# EAGLE library part SPARKFUN-DISCRETESEMI_TRANS_NPN_DUAL (library kxnStandard_transistor)
Dual NPN Transistors in Single Package The MBT3904W1 puts two general purpose 3904 NPN transistors in a single package. Datasheet <http://www.onsemi.com/pub_link/Collateral/MBT3904DW1T1-D.PDF> SparkFun Products: SparkFun ESP32 Thing <https://www.sparkfun.com/products/13907>
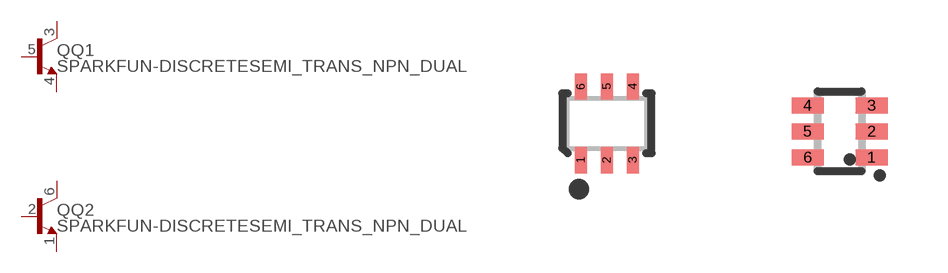
[diagram p0: symbol with the pads of SPARKFUN-DISCRETESEMI_SC70-6; footprints SPARKFUN-DISCRETESEMI_SC70-6, SOT363_JSCJ_KXN]

Designator prefix Q; gates Q1=SPARKFUN-DISCRETESEMI_NPN Q2=SPARKFUN-DISCRETESEMI_NPN

## SPARKFUN-DISCRETESEMI_TRANS_NPN_DUAL-MBT3904DW1T1 (PROD_ID: TRANS-13337; VALUE: TR_363_3904)  [SPARKFUN-DISCRETESEMI_SC70-6]
1  Q2:E  pas
2  Q2:B  pas
3  Q1:C  pas
4  Q1:E  pas
5  Q1:B  pas
6  Q2:C  pas

## SPARKFUN-DISCRETESEMI_TRANS_NPN_DUAL_SOT363_JSCJ_KXN  [SOT363_JSCJ_KXN]
Pads as for SPARKFUN-DISCRETESEMI_SC70-6

## SPARKFUN-DISCRETESEMI_TRANS_NPN_DUAL_SOT363_NXP_KXN  [SOT363_NXP_KXN]
Pads as for SPARKFUN-DISCRETESEMI_SC70-6

## Footprint SPARKFUN-DISCRETESEMI_SC70-6 (pad centres in mm)
SC-88/SC70-6/SOT-363 6-pin Package Example Datasheet <http://www.onsemi.com/pub_link/Collateral/MBT3904DW1T1-D.PDF>
smd 0.3 x 0.66: 1 -0.65,-0.92; 2 0,-0.92; 3 0.65,-0.92; 4 0.65,0.92; 5 0,0.92; 6 -0.65,0.92

## Footprint SOT363_JSCJ_KXN (pad centres in mm)
Marking MMDT3904 - (K6N): Dual NPN; 40V 200mA; 0.2te
smd 0.8 x 0.4: 1 0.8,-0.65; 2 0.8,0; 3 0.8,0.65; 4 -0.8,0.65; 5 -0.8,0; 6 -0.8,-0.65

## Footprint SOT363_NXP_KXN (pad centres in mm)
Marking BC857BS - (.3Ft) BCM857BS - (.A9t): Dual PNP; 45V 100mA; 0.78te BCM856BS - (.tBS): Dual PNP; 65V 100mA; 0.65te PUMD10 - (.Dt0): Dual NPN-PNP; R1=2K2; R2=47K; 50V 100mA PMBT2222AYSX - (.BFt): Dual NPN 40V 600mA; 0.58te https://item.taobao.com/item.htm?spm=a312a.7700824.w4002-24706531953.57.1d236a4bUOGiLR&id=697012906510
smd 0.8 x 0.4: 1 -0.8,0.65; 2 -0.8,0; 3 -0.8,-0.65; 4 0.8,-0.65; 5 0.8,0; 6 0.8,0.65